# EAGLE library part CON_MOLEX_125_6 (library paparazzi3)
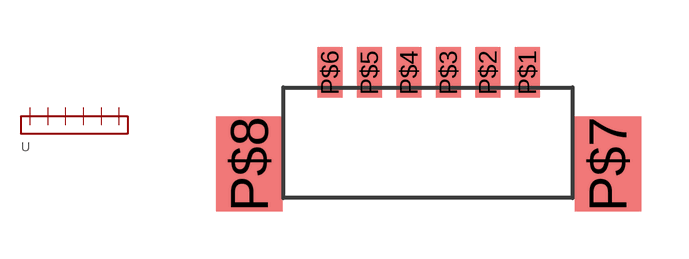
[diagram p4: symbol with the pads of CON_MOLEX_125_6; footprint CON_MOLEX_125_6]

Designator prefix -

## CON_MOLEX_125_6  [CON_MOLEX_125_6]
P$1  P$1
P$2  P$2
P$3  P$3
P$4  P$4
P$5  P$5
P$6  P$6

## Footprint CON_MOLEX_125_6 (pad centres in mm)
smd 0.8 x 1.6: P$1 3.125,0.625; P$2 1.875,0.625; P$3 0.625,0.625; P$4 -0.625,0.625; P$5 -1.875,0.625; P$6 -3.125,0.625
smd 2.1 x 3: P$7 5.675,-2.275; P$8 -5.675,-2.275